# Altium footprint library AC781x_PCB_Footprint.PcbLib: 2 footprints
Each footprint in its own frame and in the unit in brackets; x right, y up, seen from the top. Pads: shape width x height; smd on the part's side, far side on the other; paste and mask are expansions set on the pad; w line width, h text height; cw(c..) or ccw(c..) is an arc to the next point about the centre after c.
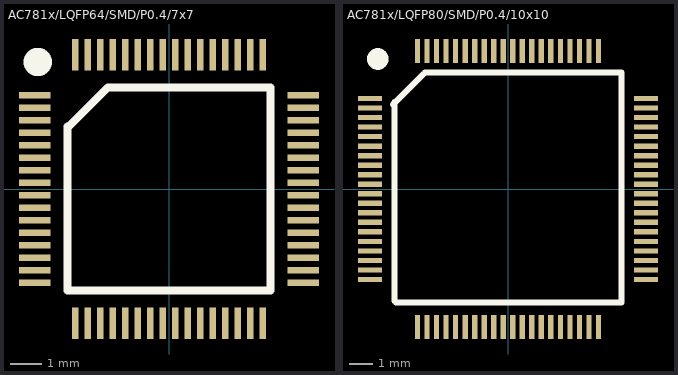
[diagram p0: the footprints below, top view; thin cyan lines are the x and y axes]

## AC781x/LQFP64/SMD/P0.4/7x7 [mm]
pads (64):
  rect 1x0.22 smd: 1(-4.3,3) 2(-4.3,2.6) 3(-4.3,2.2) 4(-4.3,1.8) 5(-4.3,1.4) 6(-4.3,1) 7(-4.3,0.6) 8(-4.3,0.2) 9(-4.3,-0.2) 10(-4.3,-0.6) 11(-4.3,-1) 12(-4.3,-1.4) 13(-4.3,-1.8) 14(-4.3,-2.2) 15(-4.3,-2.6) 16(-4.3,-3) 33(4.3,-3) 34(4.3,-2.6) 35(4.3,-2.2) 36(4.3,-1.8) 37(4.3,-1.4) 38(4.3,-1) 39(4.3,-0.6) 40(4.3,-0.2) 41(4.3,0.2) 42(4.3,0.6) 43(4.3,1) 44(4.3,1.4) 45(4.3,1.8) 46(4.3,2.2) 47(4.3,2.6) 48(4.3,3)
  rect 0.22x1 smd: 17(-3,-4.3) 18(-2.6,-4.3) 19(-2.2,-4.3) 20(-1.8,-4.3) 21(-1.4,-4.3) 22(-1,-4.3) 23(-0.6,-4.3) 24(-0.2,-4.3) 25(0.2,-4.3) 26(0.6,-4.3) 27(1,-4.3) 28(1.4,-4.3) 29(1.8,-4.3) 30(2.2,-4.3) 31(2.6,-4.3) 32(3,-4.3) 49(3,4.3) 50(2.6,4.3) 51(2.2,4.3) 52(1.8,4.3) 53(1.4,4.3) 54(1,4.3) 55(0.6,4.3) 56(0.2,4.3) 57(-0.2,4.3) 58(-0.6,4.3) 59(-1,4.3) 60(-1.4,4.3) 61(-1.8,4.3) 62(-2.2,4.3) 63(-2.6,4.3) 64(-3,4.3)
Top Overlay:
  circle w0.635: c-4.2,4.064 r0.136
  lines w0.254: -3.25,2 -3.25,-3.25 3.25,-3.25 3.25,3.25 -1.957,3.25 -3.239,1.968

## AC781x/LQFP80/SMD/P0.4/10x10 [mm]
pads (80):
  rect 1x0.22 smd: 1(-5.8,3.8) 2(-5.8,3.4) 3(-5.8,3) 4(-5.8,2.6) 5(-5.8,2.2) 6(-5.8,1.8) 7(-5.8,1.4) 8(-5.8,1) 9(-5.8,0.6) 10(-5.8,0.2) 11(-5.8,-0.2) 12(-5.8,-0.6) 13(-5.8,-1) 14(-5.8,-1.4) 15(-5.8,-1.8) 16(-5.8,-2.2) 17(-5.8,-2.6) 18(-5.8,-3) 19(-5.8,-3.4) 20(-5.8,-3.8) 41(5.8,-3.8) 42(5.8,-3.4) 43(5.8,-3) 44(5.8,-2.6) 45(5.8,-2.2) 46(5.8,-1.8) 47(5.8,-1.4) 48(5.8,-1) 49(5.8,-0.6) 50(5.8,-0.2) 51(5.8,0.2) 52(5.8,0.6) 53(5.8,1) 54(5.8,1.4) 55(5.8,1.8) 56(5.8,2.2) 57(5.8,2.6) 58(5.8,3) 59(5.8,3.4) 60(5.8,3.8)
  rect 0.22x1 smd: 21(-3.8,-5.8) 22(-3.4,-5.8) 23(-3,-5.8) 24(-2.6,-5.8) 25(-2.2,-5.8) 26(-1.8,-5.8) 27(-1.4,-5.8) 28(-1,-5.8) 29(-0.6,-5.8) 30(-0.2,-5.8) 31(0.2,-5.8) 32(0.6,-5.8) 33(1,-5.8) 34(1.4,-5.8) 35(1.8,-5.8) 36(2.2,-5.8) 37(2.6,-5.8) 38(3,-5.8) 39(3.4,-5.8) 40(3.8,-5.8) 61(3.8,5.8) 62(3.4,5.8) 63(3,5.8) 64(2.6,5.8) 65(2.2,5.8) 66(1.8,5.8) 67(1.4,5.8) 68(1,5.8) 69(0.6,5.8) 70(0.2,5.8) 71(-0.2,5.8) 72(-0.6,5.8) 73(-1,5.8) 74(-1.4,5.8) 75(-1.8,5.8) 76(-2.2,5.8) 77(-2.6,5.8) 78(-3,5.8) 79(-3.4,5.8) 80(-3.8,5.8)
Top Overlay:
  circle w0.635: c-5.47,5.461 r0.136
  lines w0.254: -4.838,3.544 -3.556,4.826 ; -4.774,-4.699 -4.774,3.651 ; -4.699,-4.774 4.774,-4.774 4.774,4.901 -3.481,4.901